# Altium schematic symbol library Buffer.SchLib: 3 symbols
Pins are listed as number, name and electrical type; pins without a type are passive.

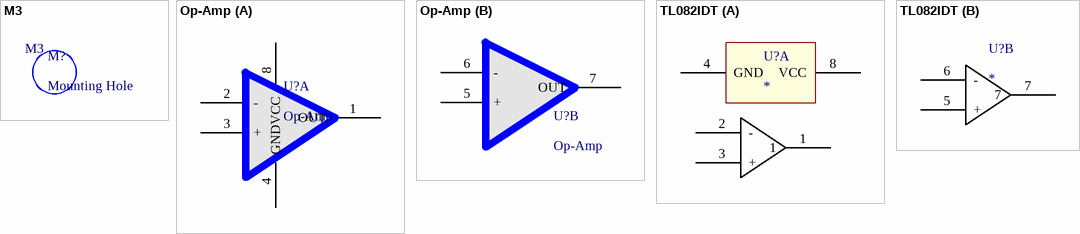
[diagram p0: symbols M3 to TL082IDT]

## M3
designator M?, comment Mounting Hole

## Op-Amp
designator U?
part A pins: 1 OUT, 2 -, 3 +, 4 GND, 8 VCC
part B pins: 5 +, 6 -, 7 OUT

## TL082IDT
designator U?
part A pins: 1, 2 -, 3 +, 4 GND, 8 VCC
part B pins: 5 +, 6 -, 7